# Altium schematic symbol library ImageSensor.SchLib: 1 symbol
Pins are listed as number, name and electrical type; pins without a type are passive.

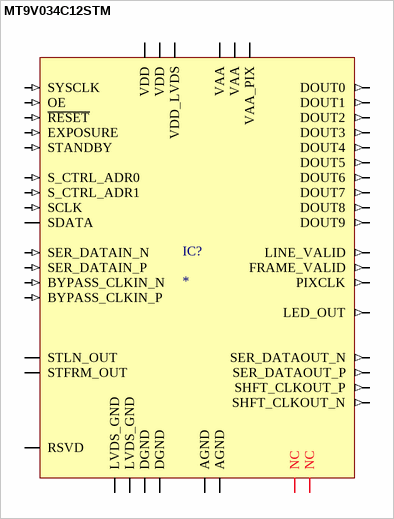
[diagram p0: symbol MT9V034C12STM]

## MT9V034C12STM
designator IC?
1/3" WVGA CMOS Image Sensor
footprint CLCC-48_m (CLCC, 48-Leads, Body 11.43x11.43x2.3mm, Pitch 0.8mm, IPC Low Density)
pins: 1 VDD (power), 2 SHFT_CLKOUT_N (out), 3 SHFT_CLKOUT_P (out), 4 SER_DATAOUT_P (out), 5 SER_DATAOUT_N (out), 6 VDD_LVDS (power), 7 LVDS_GND (power), 8 BYPASS_CLKIN_N (in), 9 BYPASS_CLKIN_P (in), 10 SER_DATAIN_N (in), 11 SER_DATAIN_P (in), 12 LVDS_GND (power), 13 DGND (power), 14 VDD (power), 15 DOUT5 (out), 16 DOUT6 (out), 17 DOUT7 (out), 18 DOUT8 (out), 19 DOUT9 (out), 20 LINE_VALID (out), 21 FRAME_VALID (out), 22 STLN_OUT (io), 23 EXPOSURE (in), 24 SDATA (io), 25 SCLK (in), 26 STFRM_OUT (io), 27 LED_OUT (out), 28 OE (in), 29 RSVD, 30 S_CTRL_ADR0 (in), 31 S_CTRL_ADR1 (in), 32 ~{RESET} (in), 33 STANDBY (in), 34 AGND (power), 35 VAA (power), 36 NC, 37 NC, 38 AGND (power), 39 VAA (power), 40 VAA_PIX (power), 41 DOUT4 (out), 42 DOUT3 (out), 43 DOUT2 (out), 44 DOUT1 (out), 45 DOUT0 (out), 46 PIXCLK (out), 47 SYSCLK (in), 48 DGND (power)